# Altium schematic symbol library L6743.SchLib: 1 symbol
Pins are listed as number, name and electrical type; pins without a type are passive.

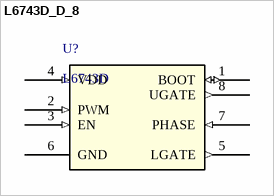
[diagram p0: symbol L6743D_D_8]

## L6743D_D_8
designator U?, comment L6743D
Manufacturer_Part_Number: tps28225_d_8; GENERIC_PART_NUMBER: TPS28225; Vendor: Texas Instruments; PACKAGE_DESIGNATOR: D; PIN_COUNT: 8; FAMILY_NAME: MOSFET DRIVER; INDUSTRY_STD_PKG_TYPE: SOIC; Datasheet URL: http://www.ti.com/lit/gpn/TPS28225; Manufacturer: Texas Instruments; RefDes: RefDes; Type: DEV; Value: Value
footprint D8
pins: 1 BOOT (io), 2 PWM (in), 3 EN (in), 4 VDD (in), 5 LGATE (out), 6 GND (power), 7 PHASE (in), 8 UGATE (out)